# Altium integrated library Micron Memory Serial NOR Flash.IntLib: 207 symbols (part 8 of 12)
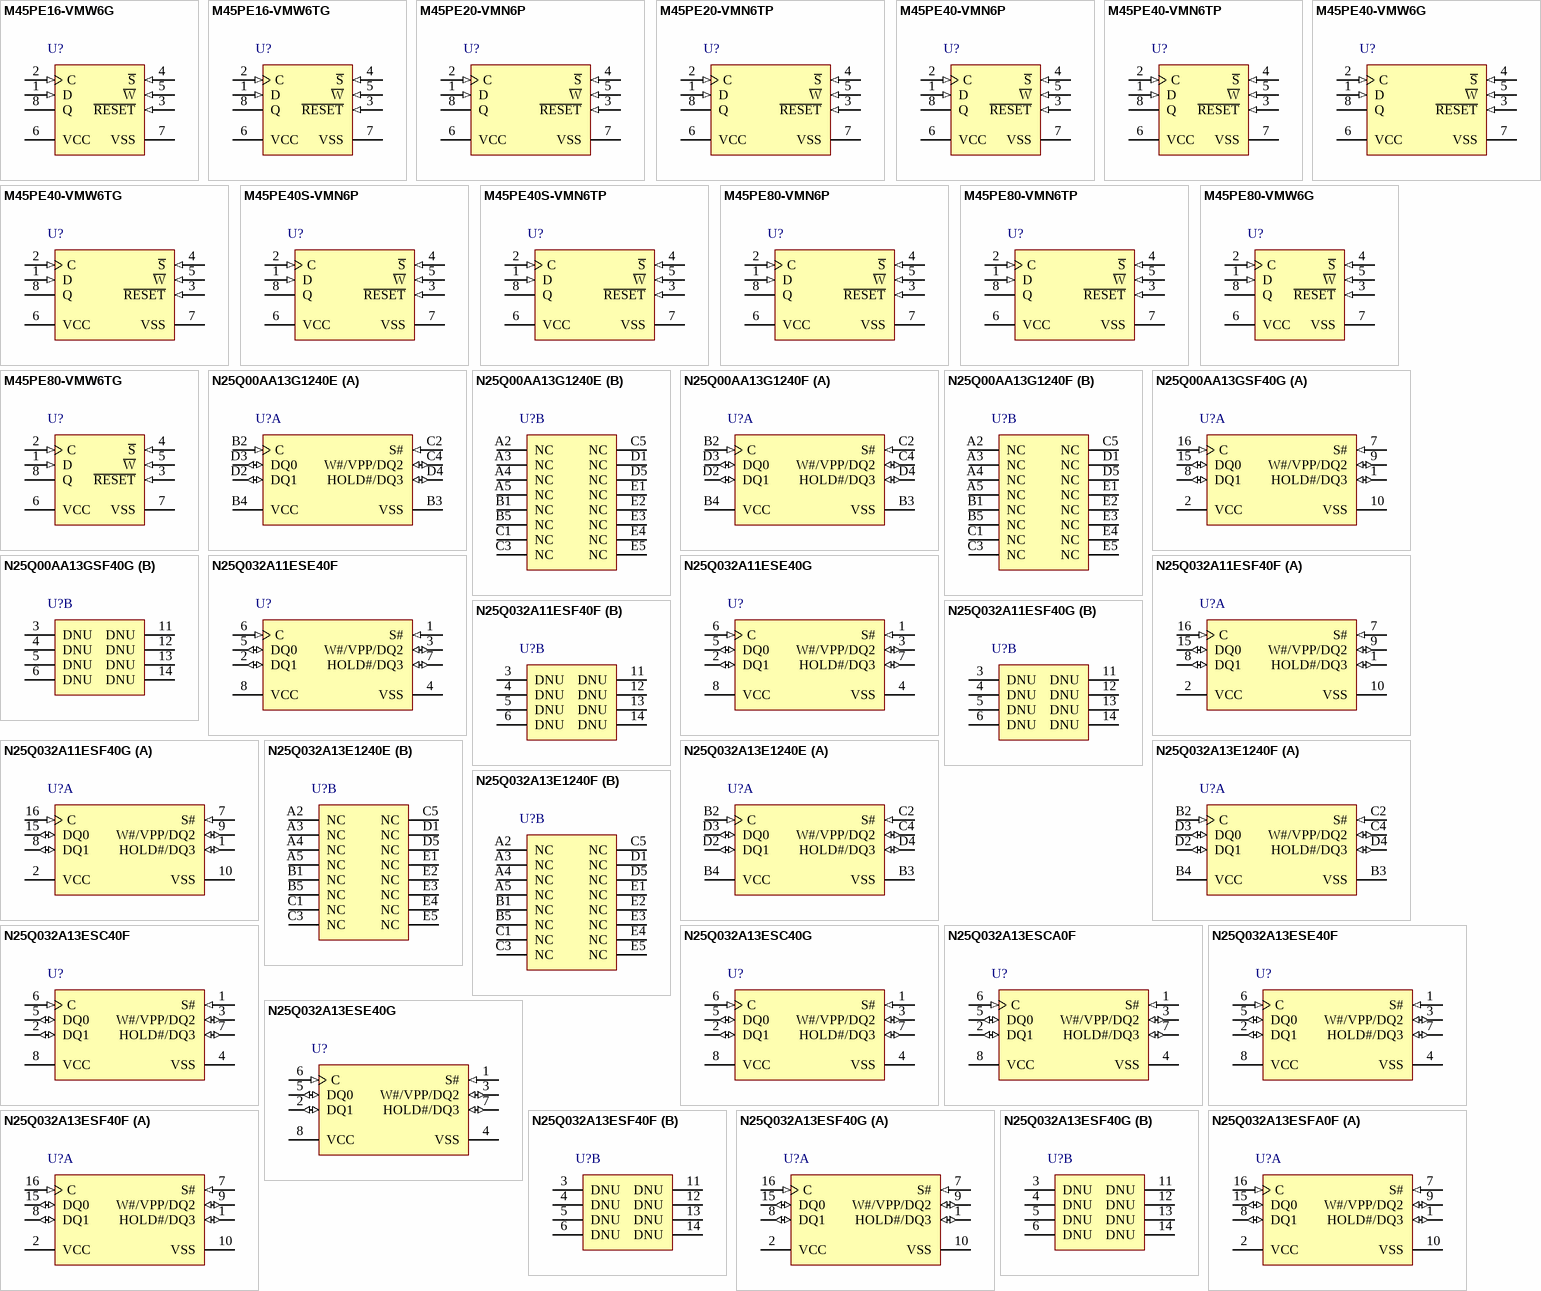
[diagram p14: symbols M45PE16-VMW6G to N25Q032A13ESFA0F]

## M45PE20-VMN6TP
designator U?
2 Mb (x1) Serial NOR Flash Memory with Page Erase, 75 MHz, 2.7 to 3.6 V, 8-pin SO8 Narrow (MN), Tape & Reel; Part Family: M45PE; Manufacturer: Micron; PartNumber: M45PE20-VMN6TP; Density: 2Mb; Speed: 75 MHz; Voltage: 2.7V-3.6V; DatasheetVersion: Rev.6; PackageVersion: Rev 11; PackageReference: MICT-MN-8; PackageDescription: 8-Pin SO Narrow, 3.9 X 4.9 mm, Pitch 1.27 mm; Applications: Embedded; Package: SO8 Narrow; Part Status: Production; RoHS: Yes; Type: Page Erase; Width: x1; Mounting Technology: Surface Mount; ComponentLink1Description: Manufacturer URL; ComponentLink1URL: http://www.micron.com/; ComponentLink2Description: Datasheet; ComponentLink2URL: http://www.micron.com/~/media/Documents/Products/Data%20Sheet/NOR%20Flash/Serial%20NOR/M25PE_M45PE/M45PE20.pdf; ComponentLink3Description: Package Specification; ComponentLink3URL: http://www.micron.com/~/media/Documents/Products/Data%20Sheet/NOR%20Flash/Serial%20NOR/M25P/M25P05A.pdf
footprint MICT-MN-8_N (SOIC, 8-Leads, Body 5x4mm, Pitch 1.27mm, IPC Medium Density)
pins: 1 D (in) "Serial data input", 2 C (in) "Serial Clock", 3 ~{RESET} (in) "Reset", 4 ~{S} (in) "Chip Select", 5 ~{W} (in) "Write Protect", 6 VCC (power) "Supply voltage", 7 VSS (power) "Ground", 8 Q (hiz) "Serial data output"

## M45PE40-VMN6P
designator U?
4 Mb (x1) Serial NOR Flash Memory with Page Erase, 75 MHz, 2.7 to 3.6 V, 8-pin SO8 Narrow (MN), Tube; Part Family: M45PE; Manufacturer: Micron; PartNumber: M45PE40-VMN6P; Density: 4Mb; Speed: 75 MHz; Voltage: 2.7V-3.6V; DatasheetVersion: Rev.9; PackageVersion: Rev 11; PackageReference: MICT-MN-8; PackageDescription: 8-Pin SO Narrow, 3.9 X 4.9 mm, Pitch 1.27 mm; Applications: Embedded; Package: SO8 Narrow; Part Status: Production; RoHS: Yes; Type: Page Erase; Width: x1; Mounting Technology: Surface Mount; ComponentLink1Description: Manufacturer URL; ComponentLink1URL: http://www.micron.com/; ComponentLink2Description: Datasheet; ComponentLink2URL: http://www.micron.com/~/media/Documents/Products/Data%20Sheet/NOR%20Flash/Serial%20NOR/M25PE_M45PE/M45PE40.pdf; ComponentLink3Description: Package Specification; ComponentLink3URL: http://www.micron.com/~/media/Documents/Products/Data%20Sheet/NOR%20Flash/Serial%20NOR/M25P/M25P05A.pdf
footprint MICT-MN-8_N (SOIC, 8-Leads, Body 5x4mm, Pitch 1.27mm, IPC Medium Density)
pins: 1 D (in) "This input signal is used to transfer data serially into the device. It receives instructions, addresses, and the data to be programmed. Values are latched on the rising edge of Serial Clock (C).", 2 C (in) "This input signal provides the timing of the serial interface. Instructions, addresses, or data present at serial data input (D) are latched on the rising edge of Serial Clock (C). Data on serial data output (Q) changes (See Datasheet)", 3 ~{RESET} (in) "The Reset (R\e\s\e\t\) input provides a hardware reset for the memory. In this mode, the outputs are high impedance. When Reset (R\e\s\e\t\) is driven High, the memory is in the normal operating mode. When Reset (R\e\s\e\t\) (See Datasheet)", 4 ~{S} (in) "When this input signal is High, the device is deselected and serial data output (Q) is at high impedance. Unless an internal read, program, erase or write cycle is in progress, the device will be in the standby power mode (See Datasheet)", 5 ~{W} (in) "This input signal puts the device in the hardware protected mode, when Write Protect (W\) is connected to VSS, causing the first 256 pages of memory to become read-only by protecting them from write, program and erase (See Datasheet)", 6 VCC (power) "VCC is the supply voltage.", 7 VSS (power) "VSS is the reference for the VCC supply voltage.", 8 Q (hiz) "This output signal is used to transfer data serially out of the device. Data is shifted out on the falling edge of Serial Clock (C)."

## M45PE40-VMN6TP
designator U?
4 Mb (x1) Serial NOR Flash Memory with Page Erase, 75 MHz, 2.7 to 3.6 V, 8-pin SO8 Narrow (MN), Tape & Reel; Part Family: M45PE; Manufacturer: Micron; PartNumber: M45PE40-VMN6TP; Density: 4Mb; Speed: 75 MHz; Voltage: 2.7V-3.6V; DatasheetVersion: Rev.9; PackageVersion: Rev 11; PackageReference: MICT-MN-8; PackageDescription: 8-Pin SO Narrow, 3.9 X 4.9 mm, Pitch 1.27 mm; Applications: Embedded; Package: SO8 Narrow; Part Status: Production; RoHS: Yes; Type: Page Erase; Width: x1; Mounting Technology: Surface Mount; ComponentLink1Description: Manufacturer URL; ComponentLink1URL: http://www.micron.com/; ComponentLink2Description: Datasheet; ComponentLink2URL: http://www.micron.com/~/media/Documents/Products/Data%20Sheet/NOR%20Flash/Serial%20NOR/M25PE_M45PE/M45PE40.pdf; ComponentLink3Description: Package Specification; ComponentLink3URL: http://www.micron.com/~/media/Documents/Products/Data%20Sheet/NOR%20Flash/Serial%20NOR/M25P/M25P05A.pdf
footprint MICT-MN-8_N (SOIC, 8-Leads, Body 5x4mm, Pitch 1.27mm, IPC Medium Density)
pins: 1 D (in) "This input signal is used to transfer data serially into the device. It receives instructions, addresses, and the data to be programmed. Values are latched on the rising edge of Serial Clock (C).", 2 C (in) "This input signal provides the timing of the serial interface. Instructions, addresses, or data present at serial data input (D) are latched on the rising edge of Serial Clock (C). Data on serial data output (Q) changes (See Datasheet)", 3 ~{RESET} (in) "The Reset (R\e\s\e\t\) input provides a hardware reset for the memory. In this mode, the outputs are high impedance. When Reset (R\e\s\e\t\) is driven High, the memory is in the normal operating mode. When Reset (R\e\s\e\t\) (See Datasheet)", 4 ~{S} (in) "When this input signal is High, the device is deselected and serial data output (Q) is at high impedance. Unless an internal read, program, erase or write cycle is in progress, the device will be in the standby power mode (See Datasheet)", 5 ~{W} (in) "This input signal puts the device in the hardware protected mode, when Write Protect (W\) is connected to VSS, causing the first 256 pages of memory to become read-only by protecting them from write, program and erase (See Datasheet)", 6 VCC (power) "VCC is the supply voltage.", 7 VSS (power) "VSS is the reference for the VCC supply voltage.", 8 Q (hiz) "This output signal is used to transfer data serially out of the device. Data is shifted out on the falling edge of Serial Clock (C)."

## M45PE40-VMW6G
designator U?
4 Mb (x1) Serial NOR Flash Memory with Page Erase, 75 MHz, 2.7 to 3.6 V, 8-pin SO8 Wide (MW), Tube; Part Family: M45PE; Manufacturer: Micron; PartNumber: M45PE40-VMW6G; Density: 4Mb; Speed: 75 MHz; Voltage: 2.7V-3.6V; DatasheetVersion: Rev.9; PackageVersion: Rev 8; PackageReference: MICT-MW-8; PackageDescription: 8-Pin SO Wide, 5.62 X 6.05 mm, Pitch 1.27 mm; Applications: Embedded; Package: SO8 Wide; Part Status: Production; RoHS: Yes; Type: Page Erase; Width: x1; Mounting Technology: Surface Mount; ComponentLink1Description: Manufacturer URL; ComponentLink1URL: http://www.micron.com/; ComponentLink2Description: Datasheet; ComponentLink2URL: http://www.micron.com/~/media/Documents/Products/Data%20Sheet/NOR%20Flash/Serial%20NOR/M25PE_M45PE/M45PE40.pdf; ComponentLink3Description: Package Specification; ComponentLink3URL: http://www.micron.com/~/media/Documents/Products/Data%20Sheet/NOR%20Flash/Serial%20NOR/M25P/M25P16.pdf
footprint MICT-MW-8_N (SOIC, 8-Leads, Body 6.2x6.1mm, Pitch 1.27mm, IPC Medium Density)
pins: 1 D (in) "This input signal is used to transfer data serially into the device. It receives instructions,addresses, and the data to be programmed. Values are latched on the rising edge of Serial Clock (C).", 2 C (in) "This input signal provides the timing of the serial interface. Instructions, addresses, or data present at Serial Data input (D) are latched on the rising edge of Serial Clock (C). Data on Serial Data output (Q) changes (See Datasheet)", 3 ~{RESET} (in) "The Reset (R\e\s\e\t\) input provides a hardware reset for the memory. In this mode, the outputs are high impedance. When Reset (R\e\s\e\t\) is driven High, the memory is in the normal operating mode. When Reset (R\e\s\e\t\) (See Datasheet)", 4 ~{S} (in) "When this input signal is High, the device is deselected and Serial Data output (Q) is at high impedance. Unless an internal program, erase or write status register cycle is in progress, the device will be in the standby (See Datasheet)", 5 ~{W} (in) "This input signal puts the device in the hardware protected mode, when Write Protect (W\) is connected to VSS, causing the first 256 pages of memory to become read-only by protecting them from write, program and erase (See Datasheet)", 6 VCC (power) "VCC is the supply voltage.", 7 VSS (power) "VSS is the reference for the VCC supply voltage.", 8 Q (hiz) "This output signal is used to transfer data serially out of the device. Data is shifted out on the falling edge of Serial Clock (C)."

## M45PE40-VMW6TG
designator U?
4 Mb (x1) Serial NOR Flash Memory with Page Erase, 75 MHz, 2.7 to 3.6 V, 8-pin SO8 Wide (MW), Tape & Reel; Part Family: M45PE; Manufacturer: Micron; PartNumber: M45PE40-VMW6TG; Density: 4Mb; Speed: 75 MHz; Voltage: 2.7V-3.6V; DatasheetVersion: Rev.9; PackageVersion: Rev 8; PackageReference: MICT-MW-8; PackageDescription: 8-Pin SO Wide, 5.62 X 6.05 mm, Pitch 1.27 mm; Applications: Embedded; Package: SO8 Wide; Part Status: Production; RoHS: Yes; Type: Page Erase; Width: x1; Mounting Technology: Surface Mount; ComponentLink1Description: Manufacturer URL; ComponentLink1URL: http://www.micron.com/; ComponentLink2Description: Datasheet; ComponentLink2URL: http://www.micron.com/~/media/Documents/Products/Data%20Sheet/NOR%20Flash/Serial%20NOR/M25PE_M45PE/M45PE40.pdf; ComponentLink3Description: Package Specification; ComponentLink3URL: http://www.micron.com/~/media/Documents/Products/Data%20Sheet/NOR%20Flash/Serial%20NOR/M25P/M25P16.pdf
footprint MICT-MW-8_N (SOIC, 8-Leads, Body 6.2x6.1mm, Pitch 1.27mm, IPC Medium Density)
pins: 1 D (in) "This input signal is used to transfer data serially into the device. It receives instructions,addresses, and the data to be programmed. Values are latched on the rising edge of Serial Clock (C).", 2 C (in) "This input signal provides the timing of the serial interface. Instructions, addresses, or data present at Serial Data input (D) are latched on the rising edge of Serial Clock (C). Data on Serial Data output (Q) changes (See Datasheet)", 3 ~{RESET} (in) "The Reset (R\e\s\e\t\) input provides a hardware reset for the memory. In this mode, the outputs are high impedance. When Reset (R\e\s\e\t\) is driven High, the memory is in the normal operating mode. When Reset (R\e\s\e\t\) (See Datasheet)", 4 ~{S} (in) "When this input signal is High, the device is deselected and Serial Data output (Q) is at high impedance. Unless an internal program, erase or write status register cycle is in progress, the device will be in the standby (See Datasheet)", 5 ~{W} (in) "This input signal puts the device in the hardware protected mode, when Write Protect (W\) is connected to VSS, causing the first 256 pages of memory to become read-only by protecting them from write, program and erase (See Datasheet)", 6 VCC (power) "VCC is the supply voltage.", 7 VSS (power) "VSS is the reference for the VCC supply voltage.", 8 Q (hiz) "This output signal is used to transfer data serially out of the device. Data is shifted out on the falling edge of Serial Clock (C)."

## M45PE40S-VMN6P
designator U?
4 Mb (x1) Serial NOR Flash Memory with Page Erase, 75 MHz, 2.7 to 3.6 V, 8-pin SO8 Narrow (MN), Tube; Part Family: M45PE; Manufacturer: Micron; PartNumber: M45PE40S-VMN6P; Density: 4Mb; Speed: 75 MHz; Voltage: 2.7V-3.6V; DatasheetVersion: Rev.9; PackageVersion: Rev 11; PackageReference: MICT-MN-8; PackageDescription: 8-Pin SO Narrow, 3.9 X 4.9 mm, Pitch 1.27 mm; Applications: Embedded; Package: SO8 Narrow; Part Status: Production; RoHS: Yes; Type: Page Erase; Width: x1; Mounting Technology: Surface Mount; ComponentLink1Description: Manufacturer URL; ComponentLink1URL: http://www.micron.com/; ComponentLink2Description: Datasheet; ComponentLink2URL: http://www.micron.com/~/media/Documents/Products/Data%20Sheet/NOR%20Flash/Serial%20NOR/M25PE_M45PE/M45PE40.pdf; ComponentLink3Description: Package Specification; ComponentLink3URL: http://www.micron.com/~/media/Documents/Products/Data%20Sheet/NOR%20Flash/Serial%20NOR/M25P/M25P05A.pdf
footprint MICT-MN-8_N (SOIC, 8-Leads, Body 5x4mm, Pitch 1.27mm, IPC Medium Density)
pins: 1 D (in) "This input signal is used to transfer data serially into the device. It receives instructions, addresses, and the data to be programmed. Values are latched on the rising edge of Serial Clock (C).", 2 C (in) "This input signal provides the timing of the serial interface. Instructions, addresses, or data present at serial data input (D) are latched on the rising edge of Serial Clock (C). Data on serial data output (Q) changes (See Datasheet)", 3 ~{RESET} (in) "The Reset (R\e\s\e\t\) input provides a hardware reset for the memory. In this mode, the outputs are high impedance. When Reset (R\e\s\e\t\) is driven High, the memory is in the normal operating mode. When Reset (R\e\s\e\t\) (See Datasheet)", 4 ~{S} (in) "When this input signal is High, the device is deselected and serial data output (Q) is at high impedance. Unless an internal read, program, erase or write cycle is in progress, the device will be in the standby power mode (See Datasheet)", 5 ~{W} (in) "This input signal puts the device in the hardware protected mode, when Write Protect (W\) is connected to VSS, causing the first 256 pages of memory to become read-only by protecting them from write, program and erase (See Datasheet)", 6 VCC (power) "VCC is the supply voltage.", 7 VSS (power) "VSS is the reference for the VCC supply voltage.", 8 Q (hiz) "This output signal is used to transfer data serially out of the device. Data is shifted out on the falling edge of Serial Clock (C)."

## M45PE40S-VMN6TP
designator U?
4 Mb (x1) Serial NOR Flash Memory with Page Erase, 75 MHz, 2.7 to 3.6 V, 8-pin SO8 Narrow (MN), Tape & Reel; Part Family: M45PE; Manufacturer: Micron; PartNumber: M45PE40S-VMN6TP; Density: 4Mb; Speed: 75 MHz; Voltage: 2.7V-3.6V; DatasheetVersion: Rev.9; PackageVersion: Rev 11; PackageReference: MICT-MN-8; PackageDescription: 8-Pin SO Narrow, 3.9 X 4.9 mm, Pitch 1.27 mm; Applications: Embedded; Package: SO8 Narrow; Part Status: Production; RoHS: Yes; Type: Page Erase; Width: x1; Mounting Technology: Surface Mount; ComponentLink1Description: Manufacturer URL; ComponentLink1URL: http://www.micron.com/; ComponentLink2Description: Datasheet; ComponentLink2URL: http://www.micron.com/~/media/Documents/Products/Data%20Sheet/NOR%20Flash/Serial%20NOR/M25PE_M45PE/M45PE40.pdf; ComponentLink3Description: Package Specification; ComponentLink3URL: http://www.micron.com/~/media/Documents/Products/Data%20Sheet/NOR%20Flash/Serial%20NOR/M25P/M25P05A.pdf
footprint MICT-MN-8_N (SOIC, 8-Leads, Body 5x4mm, Pitch 1.27mm, IPC Medium Density)
pins: 1 D (in) "This input signal is used to transfer data serially into the device. It receives instructions, addresses, and the data to be programmed. Values are latched on the rising edge of Serial Clock (C).", 2 C (in) "This input signal provides the timing of the serial interface. Instructions, addresses, or data present at serial data input (D) are latched on the rising edge of Serial Clock (C). Data on serial data output (Q) changes (See Datasheet)", 3 ~{RESET} (in) "The Reset (R\e\s\e\t\) input provides a hardware reset for the memory. In this mode, the outputs are high impedance. When Reset (R\e\s\e\t\) is driven High, the memory is in the normal operating mode. When Reset (R\e\s\e\t\) (See Datasheet)", 4 ~{S} (in) "When this input signal is High, the device is deselected and serial data output (Q) is at high impedance. Unless an internal read, program, erase or write cycle is in progress, the device will be in the standby power mode (See Datasheet)", 5 ~{W} (in) "This input signal puts the device in the hardware protected mode, when Write Protect (W\) is connected to VSS, causing the first 256 pages of memory to become read-only by protecting them from write, program and erase (See Datasheet)", 6 VCC (power) "VCC is the supply voltage.", 7 VSS (power) "VSS is the reference for the VCC supply voltage.", 8 Q (hiz) "This output signal is used to transfer data serially out of the device. Data is shifted out on the falling edge of Serial Clock (C)."

## M45PE80-VMN6P
designator U?
8 Mb (x1) Serial NOR Flash Memory with Page Erase, 75 MHz, 2.7 to 3.6 V, 8-pin SO8 Narrow (MN), Tube; Part Family: M45PE; Manufacturer: Micron; PartNumber: M45PE80-VMN6P; Density: 8Mb; Speed: 75 MHz; Voltage: 2.7V-3.6V; DatasheetVersion: Rev 11; PackageVersion: Rev 11; PackageReference: MICT-MN-8; PackageDescription: 8-Pin SO Narrow, 3.9 X 4.9 mm, Pitch 1.27 mm; Applications: Embedded; Package: SO8 Narrow; Part Status: Production; RoHS: Yes; Type: Page Erase; Width: x1; Mounting Technology: Surface Mount; ComponentLink1Description: Manufacturer URL; ComponentLink1URL: http://www.micron.com/; ComponentLink2Description: Datasheet; ComponentLink2URL: http://www.micron.com/~/media/Documents/Products/Data%20Sheet/NOR%20Flash/Serial%20NOR/M25PE_M45PE/M45PE80.pdf; ComponentLink3Description: Package Specification; ComponentLink3URL: http://www.micron.com/~/media/Documents/Products/Data%20Sheet/NOR%20Flash/Serial%20NOR/M25P/M25P05A.pdf
footprint MICT-MN-8_N (SOIC, 8-Leads, Body 5x4mm, Pitch 1.27mm, IPC Medium Density)
pins: 1 D (in) "This input signal is used to transfer data serially into the device. It receives instructions,addresses, and the data to be programmed. Values are latched on the rising edge of Serial Clock (C).", 2 C (in) "This input signal provides the timing of the serial interface. Instructions, addresses, or data present at Serial Data input (D) are latched on the rising edge of Serial Clock (C). Data on Serial Data output (Q) changes (See Datasheet)", 3 ~{RESET} (in) "The Reset (R\e\s\e\t\) input provides a hardware reset for the memory. In this mode, the outputs are high impedance. When Reset (R\e\s\e\t\) is driven High, the memory is in the normal operating mode. When Reset (R\e\s\e\t\) (See Datasheet)", 4 ~{S} (in) "When this input signal is High, the device is deselected and Serial Data output (Q) is at high impedance. Unless an internal program, erase or write status register cycle is in progress, the device will be in the standby (See Datasheet)", 5 ~{W} (in) "This input signal puts the device in the hardware protected mode, when Write Protect (W\) is connected to VSS, causing the first 256 pages of memory to become read-only by protecting them from write, program and erase (See Datasheet)", 6 VCC (power) "VCC is the supply voltage.", 7 VSS (power) "VSS is the reference for the VCC supply voltage.", 8 Q (hiz) "This output signal is used to transfer data serially out of the device. Data is shifted out on the falling edge of Serial Clock (C)."

## M45PE80-VMN6TP
designator U?
8 Mb (x1) Serial NOR Flash Memory with Page Erase, 75 MHz, 2.7 to 3.6 V, 8-pin SO8 Narrow (MN), Tape & Reel; Part Family: M45PE; Manufacturer: Micron; PartNumber: M45PE80-VMN6TP; Density: 8Mb; Speed: 75 MHz; Voltage: 2.7V-3.6V; DatasheetVersion: Rev 11; PackageVersion: Rev 11; PackageReference: MICT-MN-8; PackageDescription: 8-Pin SO Narrow, 3.9 X 4.9 mm, Pitch 1.27 mm; Applications: Embedded; Package: SO8 Narrow; Part Status: Production; RoHS: Yes; Type: Page Erase; Width: x1; Mounting Technology: Surface Mount; ComponentLink1Description: Manufacturer URL; ComponentLink1URL: http://www.micron.com/; ComponentLink2Description: Datasheet; ComponentLink2URL: http://www.micron.com/~/media/Documents/Products/Data%20Sheet/NOR%20Flash/Serial%20NOR/M25PE_M45PE/M45PE80.pdf; ComponentLink3Description: Package Specification; ComponentLink3URL: http://www.micron.com/~/media/Documents/Products/Data%20Sheet/NOR%20Flash/Serial%20NOR/M25P/M25P05A.pdf
footprint MICT-MN-8_N (SOIC, 8-Leads, Body 5x4mm, Pitch 1.27mm, IPC Medium Density)
pins: 1 D (in) "This input signal is used to transfer data serially into the device. It receives instructions,addresses, and the data to be programmed. Values are latched on the rising edge of Serial Clock (C).", 2 C (in) "This input signal provides the timing of the serial interface. Instructions, addresses, or data present at Serial Data input (D) are latched on the rising edge of Serial Clock (C). Data on Serial Data output (Q) changes (See Datasheet)", 3 ~{RESET} (in) "The Reset (R\e\s\e\t\) input provides a hardware reset for the memory. In this mode, the outputs are high impedance. When Reset (R\e\s\e\t\) is driven High, the memory is in the normal operating mode. When Reset (R\e\s\e\t\) (See Datasheet)", 4 ~{S} (in) "When this input signal is High, the device is deselected and Serial Data output (Q) is at high impedance. Unless an internal program, erase or write status register cycle is in progress, the device will be in the standby (See Datasheet)", 5 ~{W} (in) "This input signal puts the device in the hardware protected mode, when Write Protect (W\) is connected to VSS, causing the first 256 pages of memory to become read-only by protecting them from write, program and erase (See Datasheet)", 6 VCC (power) "VCC is the supply voltage.", 7 VSS (power) "VSS is the reference for the VCC supply voltage.", 8 Q (hiz) "This output signal is used to transfer data serially out of the device. Data is shifted out on the falling edge of Serial Clock (C)."

## M45PE80-VMW6G
designator U?
8 Mb (x1) Serial NOR Flash Memory with Page Erase, 75 MHz, 2.7 to 3.6 V, 8-pin SO8 Wide (MW), Tube; Part Family: M45PE; Manufacturer: Micron; PartNumber: M45PE80-VMW6G; Density: 8Mb; Speed: 75 MHz; Voltage: 2.7V-3.6V; DatasheetVersion: Rev 11; PackageVersion: Rev 8; PackageReference: MICT-MW-8; PackageDescription: 8-Pin SO Wide, 5.62 X 6.05 mm, Pitch 1.27 mm; Applications: Embedded; Package: SO8 Wide; Part Status: Production; RoHS: Yes; Type: Page Erase; Width: x1; Mounting Technology: Surface Mount; ComponentLink1Description: Manufacturer URL; ComponentLink1URL: http://www.micron.com/; ComponentLink2Description: Datasheet; ComponentLink2URL: http://www.micron.com/~/media/Documents/Products/Data%20Sheet/NOR%20Flash/Serial%20NOR/M25PE_M45PE/M45PE80.pdf; ComponentLink3Description: Package Specification; ComponentLink3URL: http://www.micron.com/~/media/Documents/Products/Data%20Sheet/NOR%20Flash/Serial%20NOR/M25P/M25P16.pdf
footprint MICT-MW-8_N (SOIC, 8-Leads, Body 6.2x6.1mm, Pitch 1.27mm, IPC Medium Density)
pins: 1 D (in) "This input signal is used to transfer data serially into the device. It receives instructions, addresses, and the data to be programmed. Values are latched on the rising edge of Serial Clock (C).", 2 C (in) "This input signal provides the timing of the serial interface. Instructions, addresses, or data present at Serial Data Input (D) are latched on the rising edge of Serial Clock (C). Data on Serial Data Output (Q) changes (See Datasheet)", 3 ~{RESET} (in) "The Reset (R\e\s\e\t\) input provides a hardware reset for the memory. When Reset (R\e\s\e\t\) is driven High, the memory is in the normal operating mode. When Reset (R\e\s\e\t\) is driven Low, the device enters the Reset (See Datasheet)", 4 ~{S} (in) "When this input signal is High, the device is deselected and Serial Data Output (Q) is at high impedance. Unless an internal Read, Program, Erase or Write cycle is in progress, the device will be in the Standby mode (this is (See Datasheet)", 5 ~{W} (in) "This input signal puts the device in the Hardware Protected mode, when Write Protect (W\) is connected to VSS, causing the first 256 pages of memory to become read-only by protecting them from write, program and erase (See Datasheet)", 6 VCC (power) "VCC is the supply voltage.", 7 VSS (power) "VSS is the reference for the VCC supply voltage.", 8 Q (hiz) "This output signal is used to transfer data serially out of the device. Data is shifted out on the falling edge of Serial Clock (C)."

## M45PE80-VMW6TG
designator U?
8 Mb (x1) Serial NOR Flash Memory with Page Erase, 75 MHz, 2.7 to 3.6 V, 8-pin SO8 Wide (MW), Tape & Reel; Part Family: M45PE; Manufacturer: Micron; PartNumber: M45PE80-VMW6TG; Density: 8Mb; Speed: 75 MHz; Voltage: 2.7V-3.6V; DatasheetVersion: Rev 11; PackageVersion: Rev 8; PackageReference: MICT-MW-8; PackageDescription: 8-Pin SO Wide, 5.62 X 6.05 mm, Pitch 1.27 mm; Applications: Embedded; Package: SO8 Wide; Part Status: Production; RoHS: Yes; Type: Page Erase; Width: x1; Mounting Technology: Surface Mount; ComponentLink1Description: Manufacturer URL; ComponentLink1URL: http://www.micron.com/; ComponentLink2Description: Datasheet; ComponentLink2URL: http://www.micron.com/~/media/Documents/Products/Data%20Sheet/NOR%20Flash/Serial%20NOR/M25PE_M45PE/M45PE80.pdf; ComponentLink3Description: Package Specification; ComponentLink3URL: http://www.micron.com/~/media/Documents/Products/Data%20Sheet/NOR%20Flash/Serial%20NOR/M25P/M25P16.pdf
footprint MICT-MW-8_N (SOIC, 8-Leads, Body 6.2x6.1mm, Pitch 1.27mm, IPC Medium Density)
pins: 1 D (in) "This input signal is used to transfer data serially into the device. It receives instructions, addresses, and the data to be programmed. Values are latched on the rising edge of Serial Clock (C).", 2 C (in) "This input signal provides the timing of the serial interface. Instructions, addresses, or data present at Serial Data Input (D) are latched on the rising edge of Serial Clock (C). Data on Serial Data Output (Q) changes (See Datasheet)", 3 ~{RESET} (in) "The Reset (R\e\s\e\t\) input provides a hardware reset for the memory. When Reset (R\e\s\e\t\) is driven High, the memory is in the normal operating mode. When Reset (R\e\s\e\t\) is driven Low, the device enters the Reset (See Datasheet)", 4 ~{S} (in) "When this input signal is High, the device is deselected and Serial Data Output (Q) is at high impedance. Unless an internal Read, Program, Erase or Write cycle is in progress, the device will be in the Standby mode (this is (See Datasheet)", 5 ~{W} (in) "This input signal puts the device in the Hardware Protected mode, when Write Protect (W\) is connected to VSS, causing the first 256 pages of memory to become read-only by protecting them from write, program and erase (See Datasheet)", 6 VCC (power) "VCC is the supply voltage.", 7 VSS (power) "VSS is the reference for the VCC supply voltage.", 8 Q (hiz) "This output signal is used to transfer data serially out of the device. Data is shifted out on the falling edge of Serial Clock (C)."

## N25Q00AA13G1240E
designator U?
1 Gb (x1/x2/x4) Serial NOR Flash Memory with Multi I/O, 108 MHz, 2.7 to 3.6 V, 24-ball T-PBGA (12), Tray; Part Family: N25Q; Manufacturer: Micron; PartNumber: N25Q00AA13G1240E; Density: 1Gb; Speed: 108 MHz; Voltage: 2.7V-3.6V; DatasheetVersion: Rev. F; PackageVersion: Rev. F; PackageReference: MICT-12-24; PackageDescription: 24-Ball T-PBGA, 8 X 6 mm, Pitch 1 mm; Applications: Embedded; Package: T-PBGA; Part Status: Production; RoHS: Yes; Type: Multi I/O; Width: x1/x2/x4; Mounting Technology: Surface Mount; ComponentLink1Description: Manufacturer URL; ComponentLink1URL: http://www.micron.com/; ComponentLink2Description: Datasheet; ComponentLink2URL: http://www.micron.com/~/media/Documents/Products/Data%20Sheet/NOR%20Flash/Serial%20NOR/N25Q/n25q_1gb_3v_65nm.pdf; ComponentLink3Description: Package Specification; ComponentLink3URL: http://www.micron.com/~/media/Documents/Products/Data%20Sheet/NOR%20Flash/Serial%20NOR/N25Q/n25q_1gb_3v_65nm.pdf
footprint MICT-12-24 (BGA, 24-Balls, Body 8x6mm, Pitch 1 mm)
part A pins: B2 C (in) "Clock: Provides the timing of the serial interface. Commands, addresses, or data present at serial data inputs are latched on the rising edge of the clock. Data is shifted out on the falling edge of the clock.", B3 VSS (power) "Ground: Reference for the VCC supply voltage.", B4 VCC (power) "Device core power supply: Source voltage.", C2 S# (in) "Chip select: When S# is HIGH, the device is deselected and DQ1 is at High-Z. When in extended SPI mode, with the device deselected, DQ1 is tri-stated. Unless an internal PROGRAM, ERASE, or WRITE STATUS REGISTER cycle is in (See Datasheet)", C4 W#/VPP/DQ2 (io) "Write protect: W# can be used as a protection control input or in QIO-SPI operations. Supply voltage: If VPP is in the voltage range of VPPH, the signal acts as an additional power supply, as defined in the AC Measurement (See Datasheet)", D2 DQ1 (io) "Serial data:Transfers data serially out of the device. Data is shifted out on the falling edge of the clock. DQ1 is used for input/output during the following operations: DUAL INPUT FAST PROGRAM, QUAD INPUT FAST PROGRAM, (See Datasheet)", D3 DQ0 (io) "Serial data: Transfers data serially into the device. It receives command codes, addresses, and the data to be programmed. Values are latched on the rising edge of the clock. DQ0 is used for input/output during the following (See Datasheet)", D4 HOLD#/DQ3 (io) "HOLD: Pauses any serial communications with the device without deselecting the device. DQ1 (output) is High-Z. DQ0 (input) and the clock are "Don't Care." To enable HOLD, the device must be selected with S# driven LOW.DQ3: (See Datasheet)"
part B pins: A2 NC "No connect.", A3 NC "No connect.", A4 NC "No connect.", A5 NC "No connect.", B1 NC "No connect.", B5 NC "No connect.", C1 NC "No connect.", C3 NC "No connect.", C5 NC "No connect.", D1 NC "No connect.", D5 NC "No connect.", E1 NC "No connect.", E2 NC "No connect.", E3 NC "No connect.", E4 NC "No connect.", E5 NC "No connect."

## N25Q00AA13G1240F
designator U?
1 Gb (x1/x2/x4) Serial NOR Flash Memory with Multi I/O, 108 MHz, 2.7 to 3.6 V, 24-ball T-PBGA (12), Tape & Reel; Part Family: N25Q; Manufacturer: Micron; PartNumber: N25Q00AA13G1240F; Density: 1Gb; Speed: 108 MHz; Voltage: 2.7V-3.6V; DatasheetVersion: Rev. F; PackageVersion: Rev. F; PackageReference: MICT-12-24; PackageDescription: 24-Ball T-PBGA, 8 X 6 mm, Pitch 1 mm; Applications: Embedded; Package: T-PBGA; Part Status: Production; RoHS: Yes; Type: Multi I/O; Width: x1/x2/x4; Mounting Technology: Surface Mount; ComponentLink1Description: Manufacturer URL; ComponentLink1URL: http://www.micron.com/; ComponentLink2Description: Datasheet; ComponentLink2URL: http://www.micron.com/~/media/Documents/Products/Data%20Sheet/NOR%20Flash/Serial%20NOR/N25Q/n25q_1gb_3v_65nm.pdf; ComponentLink3Description: Package Specification; ComponentLink3URL: http://www.micron.com/~/media/Documents/Products/Data%20Sheet/NOR%20Flash/Serial%20NOR/N25Q/n25q_1gb_3v_65nm.pdf
footprint MICT-12-24 (BGA, 24-Balls, Body 8x6mm, Pitch 1 mm)
part A pins: B2 C (in) "Clock: Provides the timing of the serial interface. Commands, addresses, or data present at serial data inputs are latched on the rising edge of the clock. Data is shifted out on the falling edge of the clock.", B3 VSS (power) "Ground: Reference for the VCC supply voltage.", B4 VCC (power) "Device core power supply: Source voltage.", C2 S# (in) "Chip select: When S# is HIGH, the device is deselected and DQ1 is at High-Z. When in extended SPI mode, with the device deselected, DQ1 is tri-stated. Unless an internal PROGRAM, ERASE, or WRITE STATUS REGISTER cycle is in (See Datasheet)", C4 W#/VPP/DQ2 (io) "Write protect: W# can be used as a protection control input or in QIO-SPI operations. Supply voltage: If VPP is in the voltage range of VPPH, the signal acts as an additional power supply, as defined in the AC Measurement (See Datasheet)", D2 DQ1 (io) "Serial data:Transfers data serially out of the device. Data is shifted out on the falling edge of the clock. DQ1 is used for input/output during the following operations: DUAL INPUT FAST PROGRAM, QUAD INPUT FAST PROGRAM, (See Datasheet)", D3 DQ0 (io) "Serial data: Transfers data serially into the device. It receives command codes, addresses, and the data to be programmed. Values are latched on the rising edge of the clock. DQ0 is used for input/output during the following (See Datasheet)", D4 HOLD#/DQ3 (io) "HOLD: Pauses any serial communications with the device without deselecting the device. DQ1 (output) is High-Z. DQ0 (input) and the clock are "Don't Care." To enable HOLD, the device must be selected with S# driven LOW.DQ3: (See Datasheet)"
part B pins: A2 NC "No connect.", A3 NC "No connect.", A4 NC "No connect.", A5 NC "No connect.", B1 NC "No connect.", B5 NC "No connect.", C1 NC "No connect.", C3 NC "No connect.", C5 NC "No connect.", D1 NC "No connect.", D5 NC "No connect.", E1 NC "No connect.", E2 NC "No connect.", E3 NC "No connect.", E4 NC "No connect.", E5 NC "No connect."

## N25Q00AA13GSF40G
designator U?
1 Gb (x1/x2/x4) Serial NOR Flash Memory with Multi I/O, 108 MHz, 2.7 to 3.6 V, 16-pin SO16 Wide (SF), Tube; Part Family: N25Q; Manufacturer: Micron; PartNumber: N25Q00AA13GSF40G; Density: 1Gb; Speed: 108 MHz; Voltage: 2.7V-3.6V; DatasheetVersion: Rev. F; PackageVersion: Rev. F; PackageReference: MICT-SF-16; PackageDescription: 16-Pin SO Wide, 7.5 X 10.3 mm, Pitch 1.27 mm; Applications: Embedded; Package: SO16 Wide; Part Status: Production; RoHS: Yes; Type: Multi I/O; Width: x1/x2/x4; Mounting Technology: Surface Mount; ComponentLink1Description: Manufacturer URL; ComponentLink1URL: http://www.micron.com/; ComponentLink2Description: Datasheet; ComponentLink2URL: http://www.micron.com/~/media/Documents/Products/Data%20Sheet/NOR%20Flash/Serial%20NOR/N25Q/n25q_1gb_3v_65nm.pdf; ComponentLink3Description: Package Specification; ComponentLink3URL: http://www.micron.com/~/media/Documents/Products/Data%20Sheet/NOR%20Flash/Serial%20NOR/N25Q/n25q_1gb_3v_65nm.pdf
footprint MICT-SF-16_N (SOIC, 16-Leads, Body 10.3x7.5mm, Pitch 1.27mm, IPC Medium Density)
part A pins: 1 HOLD#/DQ3 (io) "HOLD: Pauses any serial communications with the device without deselecting the device. DQ1 (output) is High-Z. DQ0 (input) and the clock are "Don't Care." To enable HOLD, the device must be selected with S# driven LOW.HOLD# (See Datasheet)", 2 VCC (power) "Device core power supply: Source voltage.", 7 S# (in) "Chip select: When S# is HIGH, the device is deselected and DQ1 is at High-Z. When in extended SPI mode, with the device deselected, DQ1 is tri-stated. Unless an internal PROGRAM,ERASE, or WRITE STATUS REGISTER cycle is in (See Datasheet)", 8 DQ1 (io) "Serial data:Transfers data serially out of the device. Data is shifted out on the falling edge of the clock. DQ1 is used for input/output during the following operations: DUAL INPUT FAST PROGRAM, QUAD INPUT FAST PROGRAM, (See Datasheet)", 9 W#/VPP/DQ2 (io) "Write protect: W# can be used as a protection control input or in QIO-SPI operations. When in extended SPI with single or dual commands, the WRITE PROTECT function is selectable by the voltage range applied to the signal. If (See Datasheet)", 10 VSS (power) "Ground: Reference for the VCC supply voltage.", 15 DQ0 (io) "Serial data: Transfers data serially into the device. It receives command codes, addresses, and the data to be programmed. Values are latched on the rising edge of the clock. DQ0 is used for input/output during the following (See Datasheet)", 16 C (in) "Clock: Provides the timing of the serial interface. Commands, addresses, or data present at serial data inputs are latched on the rising edge of the clock. Data is shifted out on the falling edge of the clock."
part B pins: 3 DNU "Do not use.", 4 DNU "Do not use.", 5 DNU "Do not use.", 6 DNU "Do not use.", 11 DNU "Do not use.", 12 DNU "Do not use.", 13 DNU "Do not use.", 14 DNU "Do not use."

## N25Q032A11ESE40F
designator U?
32 Mb (x1/x2/x4) Serial NOR Flash Memory with Multi I/O, 108 MHz, 1.7 to 2.0 V, 8-pin SO8 Wide (SE), Tape & Reel; Part Family: N25Q; Manufacturer: Micron; PartNumber: N25Q032A11ESE40F; Density: 32Mb; Speed: 108 MHz; Voltage: 1.7V-2.0V; DatasheetVersion: Rev. E; PackageVersion: Rev. E; PackageReference: MICT-SE-8; PackageDescription: 8-Pin SO Wide, 5.29 X 5.29 mm, Pitch 1.27 mm; Applications: Embedded; Package: SO8 Wide; Part Status: Production; RoHS: Yes; Type: Multi I/O; Width: x1/x2/x4; Mounting Technology: Surface Mount; ComponentLink1Description: Manufacturer URL; ComponentLink1URL: http://www.micron.com/; ComponentLink2Description: Datasheet; ComponentLink2URL: http://www.micron.com/~/media/Documents/Products/Data%20Sheet/NOR%20Flash/Serial%20NOR/N25Q/n25q_32mb_1_8v_65nm.pdf; ComponentLink3Description: Package Specification; ComponentLink3URL: http://www.micron.com/~/media/Documents/Products/Data%20Sheet/NOR%20Flash/Serial%20NOR/N25Q/n25q_32mb_1_8v_65nm.pdf
footprint MICT-SE-8_N (SOIC, 8-Leads, Body 5.5x5.5mm, Pitch 1.27mm, IPC Medium Density)
pins: 1 S# (in) "When S# is HIGH, the device is deselected and DQ1 is at High-Z. When in extended SPI mode, with the device deselected, DQ1 is tri-stated. Unless an internal PROGRAM, ERASE, or WRITE STATUS REGISTER cycle is in progress, the (See Datasheet)", 2 DQ1 (io) "Transfers data serially out of the device. Data is shifted out on the falling edge of the clock. DQ1 is used for input/output during the following operations: DUAL INPUT FAST PROGRAM, QUAD INPUT FAST PROGRAM, DUAL INPUT (See Datasheet)", 3 W#/VPP/DQ2 (io) "W# can be used as a protection control input or in QIO-SPI operations.If VPP is in the voltage range of VPPH, the signal acts as an additional power supply, as defined in the AC Measurement Conditions table.When in QIO-SPI (See Datasheet)", 4 VSS (power) "Reference for the VCC supply voltage.", 5 DQ0 (io) "Transfers data serially into the device. It receives command codes, addresses, and the data to be programmed. Values are latched on the rising edge of the clock. DQ0 is used for input/output during the following operations: (See Datasheet)", 6 C (in) "Provides the timing of the serial interface. Commands, addresses, or data present at serial data inputs are latched on the rising edge of the clock. Data is shifted out on the falling edge of the clock.", 7 HOLD#/DQ3 (io) "Pauses any serial communications with the device without deselecting the device.When in quad SPI mode or in extended SPI mode using quad FAST READ commands, the signal functions as DQ3, providing input/output.", 8 VCC (power) "Source voltage."

## N25Q032A11ESE40G
designator U?
32 Mb (x1/x2/x4) Serial NOR Flash Memory with Multi I/O, 108 MHz, 1.7 to 2.0 V, 8-pin SO8 Wide (SE), Tube; Part Family: N25Q; Manufacturer: Micron; PartNumber: N25Q032A11ESE40G; Density: 32Mb; Speed: 108 MHz; Voltage: 1.7V-2.0V; DatasheetVersion: Rev. E; PackageVersion: Rev. E; PackageReference: MICT-SE-8; PackageDescription: 8-Pin SO Wide, 5.29 X 5.29 mm, Pitch 1.27 mm; Applications: Embedded; Package: SO8 Wide; Part Status: Production; RoHS: Yes; Type: Multi I/O; Width: x1/x2/x4; Mounting Technology: Surface Mount; ComponentLink1Description: Manufacturer URL; ComponentLink1URL: http://www.micron.com/; ComponentLink2Description: Datasheet; ComponentLink2URL: http://www.micron.com/~/media/Documents/Products/Data%20Sheet/NOR%20Flash/Serial%20NOR/N25Q/n25q_32mb_1_8v_65nm.pdf; ComponentLink3Description: Package Specification; ComponentLink3URL: http://www.micron.com/~/media/Documents/Products/Data%20Sheet/NOR%20Flash/Serial%20NOR/N25Q/n25q_32mb_1_8v_65nm.pdf
footprint MICT-SE-8_N (SOIC, 8-Leads, Body 5.5x5.5mm, Pitch 1.27mm, IPC Medium Density)
pins: 1 S# (in) "When S# is HIGH, the device is deselected and DQ1 is at High-Z. When in extended SPI mode, with the device deselected, DQ1 is tri-stated. Unless an internal PROGRAM, ERASE, or WRITE STATUS REGISTER cycle is in progress, the (See Datasheet)", 2 DQ1 (io) "Transfers data serially out of the device. Data is shifted out on the falling edge of the clock. DQ1 is used for input/output during the following operations: DUAL INPUT FAST PROGRAM, QUAD INPUT FAST PROGRAM, DUAL INPUT (See Datasheet)", 3 W#/VPP/DQ2 (io) "W# can be used as a protection control input or in QIO-SPI operations.If VPP is in the voltage range of VPPH, the signal acts as an additional power supply, as defined in the AC Measurement Conditions table.When in QIO-SPI (See Datasheet)", 4 VSS (power) "Reference for the VCC supply voltage.", 5 DQ0 (io) "Transfers data serially into the device. It receives command codes, addresses, and the data to be programmed. Values are latched on the rising edge of the clock. DQ0 is used for input/output during the following operations: (See Datasheet)", 6 C (in) "Provides the timing of the serial interface. Commands, addresses, or data present at serial data inputs are latched on the rising edge of the clock. Data is shifted out on the falling edge of the clock.", 7 HOLD#/DQ3 (io) "Pauses any serial communications with the device without deselecting the device.When in quad SPI mode or in extended SPI mode using quad FAST READ commands, the signal functions as DQ3, providing input/output.", 8 VCC (power) "Source voltage."

## N25Q032A11ESF40F
designator U?
32 Mb (x1/x2/x4) Serial NOR Flash Memory with Multi I/O, 108 MHz, 1.7 to 2.0 V, 16-pin SO16 Wide (SF), Tape & Reel; Part Family: N25Q; Manufacturer: Micron; PartNumber: N25Q032A11ESF40F; Density: 32Mb; Speed: 108 MHz; Voltage: 1.7V-2.0V; DatasheetVersion: Rev. E; PackageVersion: Rev. F; PackageReference: MICT-SF-16; PackageDescription: 16-Pin SO Wide, 7.5 X 10.3 mm, Pitch 1.27 mm; Applications: Embedded; Package: SO16 Wide; Part Status: Production; RoHS: Yes; Type: Multi I/O; Width: x1/x2/x4; Mounting Technology: Surface Mount; ComponentLink1Description: Manufacturer URL; ComponentLink1URL: http://www.micron.com/; ComponentLink2Description: Datasheet; ComponentLink2URL: http://www.micron.com/~/media/Documents/Products/Data%20Sheet/NOR%20Flash/Serial%20NOR/N25Q/n25q_32mb_1_8v_65nm.pdf; ComponentLink3Description: Package Specification; ComponentLink3URL: http://www.micron.com/~/media/Documents/Products/Data%20Sheet/NOR%20Flash/Serial%20NOR/N25Q/n25q_1gb_3v_65nm.pdf
footprint MICT-SF-16_N (SOIC, 16-Leads, Body 10.3x7.5mm, Pitch 1.27mm, IPC Medium Density)
part A pins: 1 HOLD#/DQ3 (io) "HOLD: Pauses any serial communications with the device without deselecting the device. DQ1 (output) is High-Z. DQ0 (input) and the clock are "Don't Care." To enable HOLD, the device must be selected with S# driven LOW. HOLD# (See Datasheet)", 2 VCC (power) "Device core power supply: Source voltage.", 7 S# (in) "Chip select: When S# is HIGH, the device is deselected and DQ1 is at High-Z. When in extended SPI mode, with the device deselected, DQ1 is tri-stated. Unless an internal PROGRAM, ERASE, or WRITE STATUS REGISTER cycle is in (See Datasheet)", 8 DQ1 (io) "Serial data:Transfers data serially out of the device. Data is shifted out on the falling edge of the clock. DQ1 is used for input/output during the following operations: DUAL INPUT FAST PROGRAM, QUAD INPUT FAST PROGRAM, (See Datasheet)", 9 W#/VPP/DQ2 (io) "Write protect: W# can be used as a protection control input or in QIO-SPI operations. When in extended SPI with single or dual commands, the WRITE PROTECT function is selectable by the voltage range applied to the signal. If (See Datasheet)", 10 VSS (power) "Ground: Reference for the VCC supply voltage.", 15 DQ0 (io) "Serial data: Transfers data serially into the device. It receives command codes, addresses, and the data to be programmed. Values are latched on the rising edge of the clock. DQ0 is used for input/output during the following (See Datasheet)", 16 C (in) "Clock: Provides the timing of the serial interface. Commands, addresses, or data present at serial data inputs are latched on the rising edge of the clock. Data is shifted out on the falling edge of the clock."
part B pins: 3 DNU "Do not use.", 4 DNU "Do not use.", 5 DNU "Do not use.", 6 DNU "Do not use.", 11 DNU "Do not use.", 12 DNU "Do not use.", 13 DNU "Do not use.", 14 DNU "Do not use."

## N25Q032A11ESF40G
designator U?
32 Mb (x1/x2/x4) Serial NOR Flash Memory with Multi I/O, 108 MHz, 1.7 to 2.0 V, 16-pin SO16 Wide (SF), Tube; Part Family: N25Q; Manufacturer: Micron; PartNumber: N25Q032A11ESF40G; Density: 32Mb; Speed: 108 MHz; Voltage: 1.7V-2.0V; DatasheetVersion: Rev. E; PackageVersion: Rev. F; PackageReference: MICT-SF-16; PackageDescription: 16-Pin SO Wide, 7.5 X 10.3 mm, Pitch 1.27 mm; Applications: Embedded; Package: SO16 Wide; Part Status: Production; RoHS: Yes; Type: Multi I/O; Width: x1/x2/x4; Mounting Technology: Surface Mount; ComponentLink1Description: Manufacturer URL; ComponentLink1URL: http://www.micron.com/; ComponentLink2Description: Datasheet; ComponentLink2URL: http://www.micron.com/~/media/Documents/Products/Data%20Sheet/NOR%20Flash/Serial%20NOR/N25Q/n25q_32mb_1_8v_65nm.pdf; ComponentLink3Description: Package Specification; ComponentLink3URL: http://www.micron.com/~/media/Documents/Products/Data%20Sheet/NOR%20Flash/Serial%20NOR/N25Q/n25q_1gb_3v_65nm.pdf
footprint MICT-SF-16_N (SOIC, 16-Leads, Body 10.3x7.5mm, Pitch 1.27mm, IPC Medium Density)
part A pins: 1 HOLD#/DQ3 (io) "HOLD: Pauses any serial communications with the device without deselecting the device. DQ1 (output) is High-Z. DQ0 (input) and the clock are "Don't Care." To enable HOLD, the device must be selected with S# driven LOW. HOLD# (See Datasheet)", 2 VCC (power) "Device core power supply: Source voltage.", 7 S# (in) "Chip select: When S# is HIGH, the device is deselected and DQ1 is at High-Z. When in extended SPI mode, with the device deselected, DQ1 is tri-stated. Unless an internal PROGRAM, ERASE, or WRITE STATUS REGISTER cycle is in (See Datasheet)", 8 DQ1 (io) "Serial data:Transfers data serially out of the device. Data is shifted out on the falling edge of the clock. DQ1 is used for input/output during the following operations: DUAL INPUT FAST PROGRAM, QUAD INPUT FAST PROGRAM, (See Datasheet)", 9 W#/VPP/DQ2 (io) "Write protect: W# can be used as a protection control input or in QIO-SPI operations. When in extended SPI with single or dual commands, the WRITE PROTECT function is selectable by the voltage range applied to the signal. If (See Datasheet)", 10 VSS (power) "Ground: Reference for the VCC supply voltage.", 15 DQ0 (io) "Serial data: Transfers data serially into the device. It receives command codes, addresses, and the data to be programmed. Values are latched on the rising edge of the clock. DQ0 is used for input/output during the following (See Datasheet)", 16 C (in) "Clock: Provides the timing of the serial interface. Commands, addresses, or data present at serial data inputs are latched on the rising edge of the clock. Data is shifted out on the falling edge of the clock."
part B pins: 3 DNU "Do not use.", 4 DNU "Do not use.", 5 DNU "Do not use.", 6 DNU "Do not use.", 11 DNU "Do not use.", 12 DNU "Do not use.", 13 DNU "Do not use.", 14 DNU "Do not use."

## N25Q032A13E1240E
designator U?
32 Mb (x1/x2/x4) Serial NOR Flash Memory with Multi I/O, 108 MHz, 2.7 to 3.6 V, 24-ball T-PBGA (12), Tray; Part Family: N25Q; Manufacturer: Micron; PartNumber: N25Q032A13E1240E; Density: 32Mb; Speed: 108 MHz; Voltage: 2.7V-3.6V; DatasheetVersion: Rev. G; PackageVersion: Rev. F; PackageReference: MICT-12-24; PackageDescription: 24-Ball T-PBGA, 8 X 6 mm, Pitch 1 mm; Applications: Embedded; Package: T-PBGA; Part Status: Production; RoHS: Yes; Type: Multi I/O; Width: x1/x2/x4; Mounting Technology: Surface Mount; ComponentLink1Description: Manufacturer URL; ComponentLink1URL: http://www.micron.com/; ComponentLink2Description: Datasheet; ComponentLink2URL: http://www.micron.com/~/media/Documents/Products/Data%20Sheet/NOR%20Flash/Serial%20NOR/N25Q/n25q_32mb_3v_65nm.pdf; ComponentLink3Description: Package Specification; ComponentLink3URL: http://www.micron.com/~/media/Documents/Products/Data%20Sheet/NOR%20Flash/Serial%20NOR/N25Q/n25q_1gb_3v_65nm.pdf
footprint MICT-12-24 (BGA, 24-Balls, Body 8x6mm, Pitch 1 mm)
part A pins: B2 C (in) "Clock: Provides the timing of the serial interface. Commands, addresses, or data present at serial data inputs are latched on the rising edge of the clock. Data is shifted out on the falling edge of the clock.", B3 VSS (power) "Ground: Reference for the VCC supply voltage.", B4 VCC (power) "Device core power supply: Source voltage.", C2 S# (in) "Chip select: When S# is HIGH, the device is deselected and DQ1 is at High-Z. When in extended SPI mode, with the device deselected, DQ1 is tri-stated. Unless an internal PROGRAM, ERASE, or WRITE STATUS REGISTER cycle is in (See Datasheet)", C4 W#/VPP/DQ2 (io) "W# can be used as a protection control input or in QIO-SPI operations.If VPP is in the voltage range of VPPH, the signal acts as an additional power supply, as defined in the AC Measurement Conditions table.When in QIO-SPI (See Datasheet)", D2 DQ1 (io) "Serial data:Transfers data serially out of the device. Data is shifted out on the falling edge of the clock. DQ1 is used for input/output during the following operations: DUAL INPUT FAST PROGRAM, QUAD INPUT FAST PROGRAM, (See Datasheet)", D3 DQ0 (io) "Serial data: Transfers data serially into the device. It receives command codes, addresses, and the data to be programmed. Values are latched on the rising edge of the clock. DQ0 is used for input/output during the following (See Datasheet)", D4 HOLD#/DQ3 (io) "HOLD: Pauses any serial communications with the device without deselecting the device. DQ1 (output) is High-Z. DQ0 (input) and the clock are "Don't Care." To enable HOLD, the device must be selected with S# driven LOW.DQ3: (See Datasheet)"
part B pins: A2 NC "No connect.", A3 NC "No connect.", A4 NC "No connect.", A5 NC "No connect.", B1 NC "No connect.", B5 NC "No connect.", C1 NC "No connect.", C3 NC "No connect.", C5 NC "No connect.", D1 NC "No connect.", D5 NC "No connect.", E1 NC "No connect.", E2 NC "No connect.", E3 NC "No connect.", E4 NC "No connect.", E5 NC "No connect."